# Altium schematic symbol library MPPT_600W.SchLib: 22 symbols
Pins are listed as number, name and electrical type; pins without a type are passive.

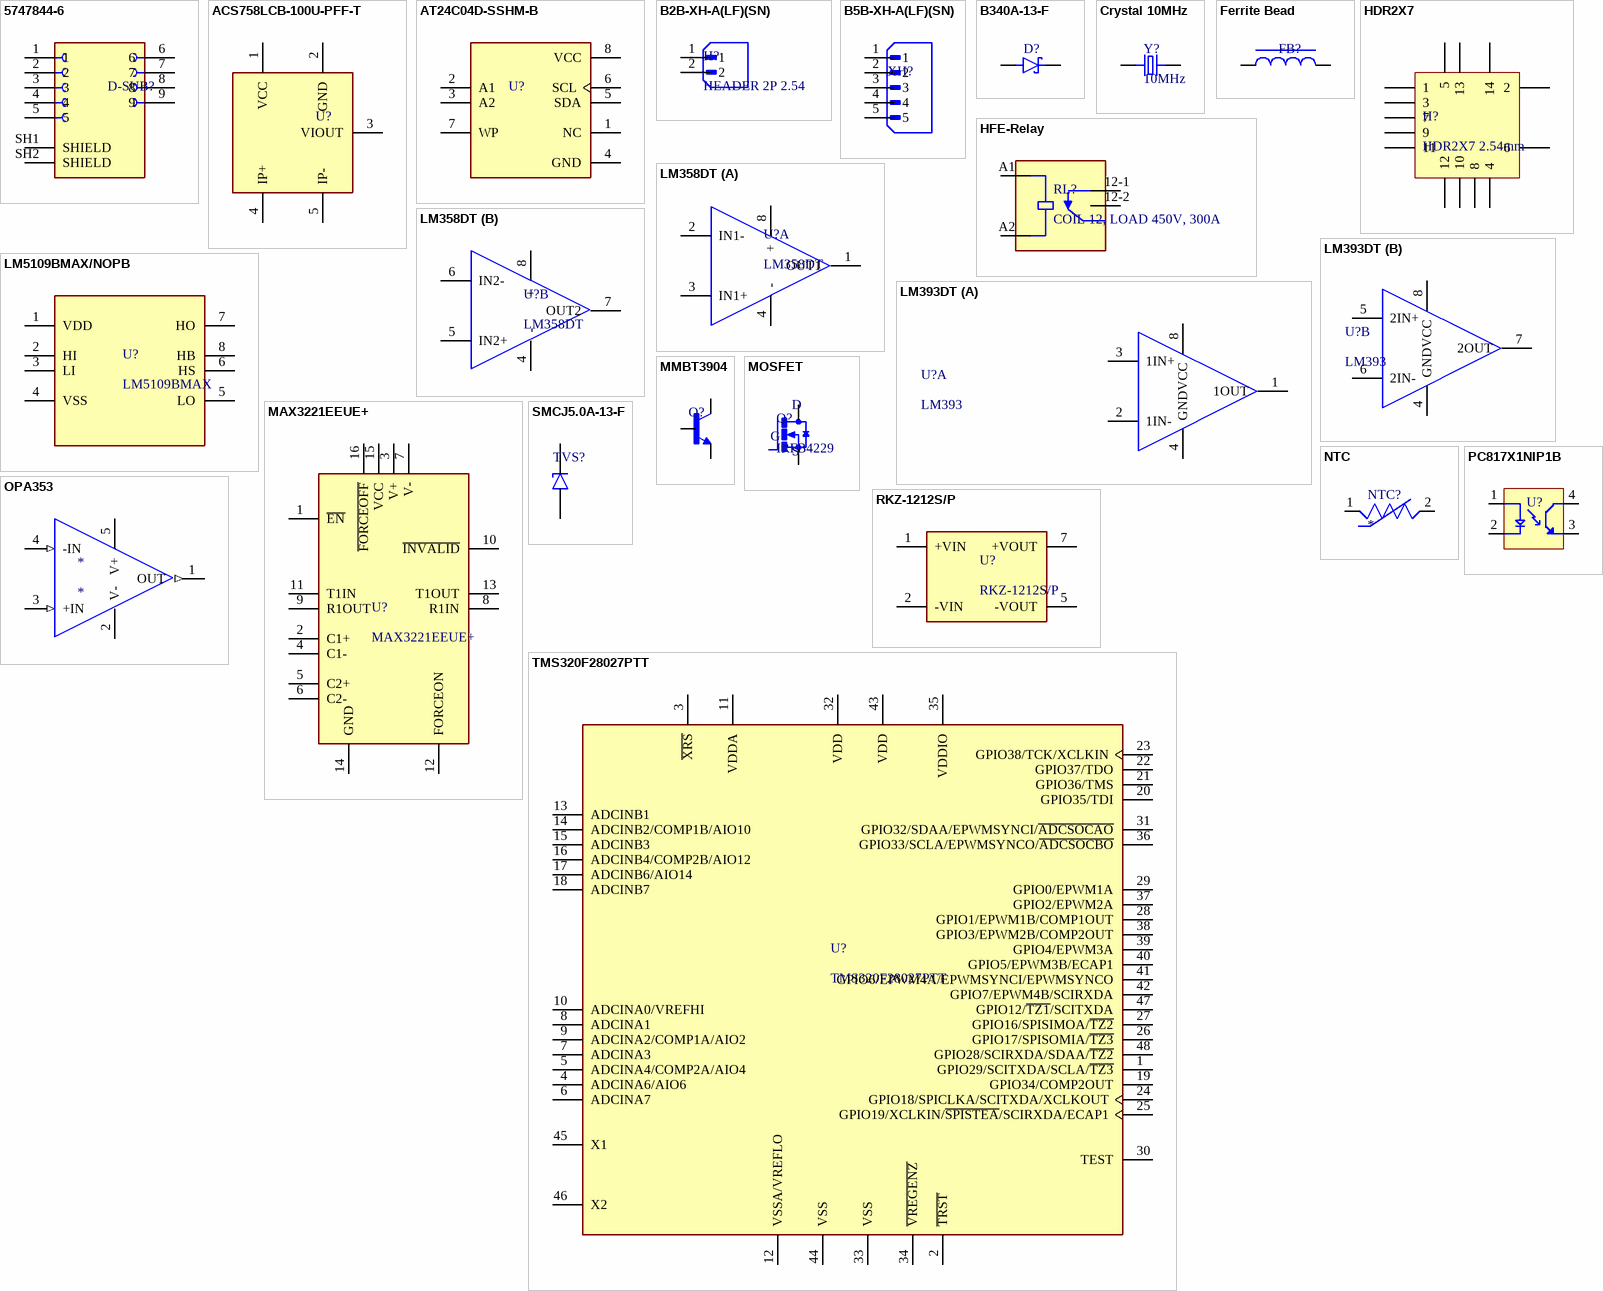
[diagram p0: symbols 5747844-6 to TMS320F28027PTT]

## 5747844-6
designator D-SUB?, comment 9PIN  (value not drawn)
Conn D-Subminiature SKT 9 POS 2.74mm Solder RA Thru-Hole 9 Terminal 1 Port Tray; Manufacturer: TE Connectivity AMP; Manufacturer Part Number: 5747844-6; Supplier 1: Avnet; RoHS: Yes; Category: D-Sub Connectors; Stock 1: 15437; Pricing 1: 1=2,25787, 10=2,21046, 30=2,11568, 50=2,05269, 100=1,97366 (USD); ComponentLink1URL: http://datasheet.octopart.com/5747844-6-TE-Connectivity-datasheet-10978930.pdf?src-supplier=Newark; ComponentLink1Description: http://datasheet.octopart.com/5747844-6-TE-Connectivity-datasheet-10978930.pdf?src-supplier=Newark; ComponentLink2URL: http://datasheet.octopart.com/5747844-6-TE-Connectivity-datasheet-10978930.pdf?src-supplier=Rs; ComponentLink2Description: http://datasheet.octopart.com/5747844-6-TE-Connectivity-datasheet-10978930.pdf?src-supplier=Rs; ComponentLink3URL: http://datasheet.octopart.com/5747844-6-TE-Connectivity-datasheet-10978930.pdf?src-supplier=Distrelec; ComponentLink3Description: http://datasheet.octopart.com/5747844-6-TE-Connectivity-datasheet-10978930.pdf?src-supplier=Distrelec; ComponentLink4URL: https://datasheet.octopart.com/5747844-6-Tyco-Electronics-datasheet-5330706.pdf?src-supplier=Future+Electronics; ComponentLink4Description: https://datasheet.octopart.com/5747844-6-Tyco-Electronics-datasheet-5330706.pdf?src-supplier=Future+Electronics; ComponentLink5URL: http://datasheet.octopart.com/5747844-6-TE-Connectivity-datasheet-10978930.pdf?src-supplier=Onlinecomponents.com; ComponentLink5Description: http://datasheet.octopart.com/5747844-6-TE-Connectivity-datasheet-10978930.pdf?src-supplier=Onlinecomponents.com; ComponentLink6URL: https://www.te.com/commerce/DocumentDelivery/DDEController?Action=srchrtrv&amp;DocNm=5747844&amp;DocType=Customer+Drawing&amp;DocLang=English&src-supplier=Digikey; ComponentLink6Description: https://www.te.com/commerce/DocumentDelivery/DDEController?Action=srchrtrv&amp;DocNm=5747844&amp;DocType=Customer+Drawing&amp;DocLang=English&src-supplier=Digikey; ComponentLink7URL: http://datasheet.octopart.com/5747844-6-TE-Connectivity-datasheet-10978930.pdf?src-supplier=TTI; ComponentLink7Description: http://datasheet.octopart.com/5747844-6-TE-Connectivity-datasheet-10978930.pdf?src-supplier=TTI; ComponentLink8URL: http://datasheet.octopart.com/5747844-6-TE-Connectivity-datasheet-10978930.pdf?src-supplier=Quest; ComponentLink8Description: http://datasheet.octopart.com/5747844-6-TE-Connectivity-datasheet-10978930.pdf?src-supplier=Quest; ComponentLink9URL: http://datasheet.octopart.com/5747844-6-TE-Connectivity-datasheet-10978930.pdf?src-supplier=TME; ComponentLink9Description: http://datasheet.octopart.com/5747844-6-TE-Connectivity-datasheet-10978930.pdf?src-supplier=TME; ComponentLink10URL: http://datasheet.octopart.com/5747844-6-TE-Connectivity-datasheet-10978930.pdf?src-supplier=Heilind+Electronics; ComponentLink10Description: http://datasheet.octopart.com/5747844-6-TE-Connectivity-datasheet-10978930.pdf?src-supplier=Heilind+Electronics; ComponentLink11URL: http://datasheet.octopart.com/5747844-6-TE-Connectivity-datasheet-10978930.pdf?src-supplier=Sager+Electronics; ComponentLink11Description: http://datasheet.octopart.com/5747844-6-TE-Connectivity-datasheet-10978930.pdf?src-supplier=Sager+Electronics; Supplier Part Number 1: 5747844-6
footprint D-SUB
pins: 1, 2, 3, 4, 5, 6, 7, 8, 9, SH1 SHIELD, SH2 SHIELD

## ACS758LCB-100U-PFF-T
designator U?  (value not drawn)
Open Loop Current Sensor AC/DC Current 5V Automotive 5-Pin Case CB-PFF Tube; Manufacturer: Allegro MicroSystems; Output Current: 1mA; Max Supply Current: 13.5mA; Min Supply Voltage: 3V; Max Supply Voltage: 5.5V; Bandwidth: 120kHz; Number of Channels: 1; Response Time: 4us; Quiescent Current: 10mA; Linearity: 1.25%; Accuracy: 2.4%; Current Sensing: 100A; Sensitivity: 40mV/A; Sensing Method: 6244SensingMethod; Supplier 1: Digikey; Manufacturer Part Number: ACS758LCB-100U-PFF-T; RoHS: Yes; Category: Current Sensors; Stock 1: 728; Pricing 1: 1=7,94, 5=7,17, 10=6,884, 34=6,43618, 68=6,21118, 102=6,08833, 510=5,65765, 1020=5,49716 (USD); Mount: Through Hole; Number of Pins: 5; Min Operating Temperature: -40°C; Max Operating Temperature: 150°C; Operating Supply Voltage: 5V; Packaging: Rail/Tube; Frequency: 120kHz; Series: Automotive, AEC-Q100; Operating Supply Current: 10mA; Length: 10mm; Width: 13mm; Height: 7mm; Radiation Hardening: No; Reach SVHC Compliant: No; RoHS Compliant: Yes; ComponentLink1URL: https://datasheet.ciiva.com/1165/acs758-datasheet-1165150.pdf?src-supplier=Element14; ComponentLink1Description: https://datasheet.ciiva.com/1165/acs758-datasheet-1165150.pdf?src-supplier=Element14; Supplier Part Number 1: 620-1354-ND
footprint ACS758
pins: 1 VCC (power), 2 GND (power), 3 VIOUT, 4 IP+, 5 IP-

## AT24C04D-SSHM-B
designator U?  (value not drawn)
AT24C04D Series 4 Kb (512 x 8) 1.7 V SMT I2C Compatible Serial EEPROM - SOIC-8; Manufacturer: Microchip; Memory Size: 512B; Supplier 1: Arrow Electronics; Manufacturer Part Number: AT24C04D-SSHM-B; RoHS: Yes; Stock 1: 1699; Pricing 1: 1=0,2175, 10=0,2121, 100=0,2065, 1000=0,2061 (USD); Height: 1.75mm; ComponentLink1URL: https://datasheet.ciiva.com/48502/atmel-8896-seeprom-at24c04d-datasheet-48502028.pdf?src-supplier=Avnet; ComponentLink1Description: https://datasheet.ciiva.com/48502/atmel-8896-seeprom-at24c04d-datasheet-48502028.pdf?src-supplier=Avnet; Supplier Part Number 1: AT24C04D-SSHM-B
footprint AT24C04D
pins: 1 NC, 2 A1, 3 A2, 4 GND, 5 SDA, 6 SCL, 7 WP, 8 VCC

## B2B-XH-A(LF)(SN)
designator H?, comment HEADER 2P 2.54
CONNECTOR HEADER, XH SERIES, 2 POSITION, 2.50MM, Press-Fit Solder, Detent Lock, Natural; Manufacturer: JST; Manufacturer Part Number: B2B-XH-A(LF)(SN); Current Rating: 3A; Number of Positions: 2; Contact Resistance: 20mR; Insulation Resistance: 1GR; Voltage Rating: 250V; Pitch: 2.5mm; Wire/Cable Gauge: 22AWG; Supplier 1: Future Electronics; RoHS: Yes; Category: Headers and Wire Housings; Stock 1: 138390; Pricing 1: 1=0,0544, 500=0,0528, 1500=0,0514, 5000=0,0499, 15000=0,0472 (USD); Mount: Through Hole; Contact Material: Brass; Contact Plating: Tin,Lead,Copper; Housing Material: Polyamide; Color: Natural; Housing Color: White; Weight: 28.349523g; Min Operating Temperature: -25°C; Max Operating Temperature: 85°C; Termination: Solder; Number of Rows: 1; Packaging: Bulk; Series: XH; Orientation: Straight; Contact Type: Male Pin; Max Current Rating: 3A; Fastening Type: Detent; Max Voltage Rating (AC): 250V; Number of Contacts: 2; Voltage Rating (AC): 250V; Max Voltage Rating (DC): 250V; Length: 7.4mm; Depth: 5.75mm; Lead Pitch: 2.5mm; Lead Free: Lead Free; Reach SVHC Compliant: No; ComponentLink1URL: https://datasheet.ciiva.com/11746/0900766b8082653e-11746979.pdf?src-supplier=Rs; ComponentLink1Description: https://datasheet.ciiva.com/11746/0900766b8082653e-11746979.pdf?src-supplier=Rs; ComponentLink2URL: https://datasheet.ciiva.com/26894/getdatasheetpartid-385291-26894760.pdf?src-supplier=Verical; ComponentLink2Description: https://datasheet.ciiva.com/26894/getdatasheetpartid-385291-26894760.pdf?src-supplier=Verical; ComponentLink3URL: https://datasheet.ciiva.com/26894/getdatasheetpartid-640357-26894434.pdf?src-supplier=Verical; ComponentLink3Description: https://datasheet.ciiva.com/26894/getdatasheetpartid-640357-26894434.pdf?src-supplier=Verical; ComponentLink4URL: https://datasheet.ciiva.com/8052/5448-8052024.pdf?src-supplier=Element14; ComponentLink4Description: https://datasheet.ciiva.com/8052/5448-8052024.pdf?src-supplier=Element14; Supplier Part Number 1: 1638840
footprint HEADER 2P 2.544
pins: 1, 2

## B5B-XH-A(LF)(SN)
designator XH?  (value not drawn)
Connector Header, XH Series, 5 Position, 2.50mm, Through Hole, Press-Fit, Solder, Natural; Manufacturer: JST; Voltage Rating: 250V; Number of Positions: 5; Gender: 29Gender; Contact Post Length: 0.134inch; Mated Stacking Heights: 9.8mm; Supplier 1: Future Electronics; Manufacturer Part Number: B5B-XH-A(LF)(SN); RoHS: Yes; Category: Headers and Wire Housings; Stock 1: 3816; Pricing 1: 1=0,106, 250=0,103, 1000=0,0996, 2500=0,0972, 10000=0,0916 (USD); Mount: Through Hole; Contact Material: Brass; Contact Shape: Square; Contact Finish - Mating: TIN; Insulation Material: Nylon; Insulation Color: Natural; Weight: 28.349523g; Min Operating Temperature: -25°C; Max Operating Temperature: 85°C; Number of Rows: 1; Packaging: Bulk; Termination: Press-Fit; Fastening Type: Detent; Connector Type: Header; Series: XH; Contact Type: Male Pin; Insulation Height: 0.276inch; Lead Free: Lead Free; Flammability Rating: UL94 V-0; ComponentLink1URL: https://datasheet.ciiva.com/26894/getdatasheetpartid-455618-26894798.pdf?src-supplier=Verical; ComponentLink1Description: https://datasheet.ciiva.com/26894/getdatasheetpartid-455618-26894798.pdf?src-supplier=Verical; ComponentLink2URL: https://datasheet.ciiva.com/11746/0900766b8082f55f-11746654.pdf?src-supplier=Rs; ComponentLink2Description: https://datasheet.ciiva.com/11746/0900766b8082f55f-11746654.pdf?src-supplier=Rs; ComponentLink3URL: https://datasheet.ciiva.com/26894/getdatasheetpartid-640991-26894479.pdf?src-supplier=Verical; ComponentLink3Description: https://datasheet.ciiva.com/26894/getdatasheetpartid-640991-26894479.pdf?src-supplier=Verical; ComponentLink4URL: https://datasheet.ciiva.com/724/exh-724390.pdf?src-supplier=Digikey; ComponentLink4Description: https://datasheet.ciiva.com/724/exh-724390.pdf?src-supplier=Digikey; ComponentLink5URL: https://datasheet.ciiva.com/8052/1684882-8052063.pdf?src-supplier=Element14; ComponentLink5Description: https://datasheet.ciiva.com/8052/1684882-8052063.pdf?src-supplier=Element14; Supplier Part Number 1: 5006945
footprint XH2.54 5p
pins: 1, 2, 3, 4, 5

## B340A-13-F
designator D?  (value not drawn)
Schottky Diode, 3A, 40V, DO-214AC; Manufacturer: Diodes; Forward Voltage: 500mV; Peak Non-Repetitive Surge Current: 80A; Max Reverse Current: 500uA; Polarity: Standard; Capacitance: 250pF; Supplier 1: Digikey; Manufacturer Part Number: B340A-13-F; RoHS: Yes; Category: LDO; Stock 1: 167709; Pricing 1: 1=0,41, 10=0,257, 100=0,2251, 500=0,16972, 1000=0,14704, 2000=0,13679, 5000=0,09696, 10000=0,09188 (USD); Mount: Surface Mount; Case/Package: SMA; Number of Pins: 2; Weight: 0.002258oz; Min Operating Temperature: -55°C; Max Operating Temperature: 125°C; Forward Current: 3A; Packaging: Tape and Reel; Package Quantity: 5000; Average Rectified Current: 3A; Max Repetitive Reverse Voltage (Vrrm): 40V; Max Forward Surge Current (Ifsm): 80A; Termination: SMD/SMT; Voltage Rating (DC): 40V; Current Rating: 3A; Output Current: 3A; Current: 3A; Voltage: 40V; Max Reverse Voltage (DC): 40V; Series: -; Length: 4.6mm; Width: 2.92mm; Height: 2.3mm; Radiation Hardening: No; RoHS Compliant: Yes; Reach SVHC Compliant: No; Lead Free: Lead Free; Supplier Part Number 1: B340A-FDICT-ND
footprint B340A
pins: A, C

## Crystal 10MHz
designator Y?, comment 10MHz
10 MHz ±20ppm Crystal 18pF 50 Ohms HC-49/US; Supplier 1: Digikey; Supplier Part Number 1: XC3070CT-ND
footprint Crystal 10Mhz
pins: 1, 2

## Ferrite Bead
designator FB?, comment Ferrite Beads Multi-Layer 390Ohm 25% 100MHz 500mA 300mOhm DCR 0603 Automotive T/R  (value not drawn)
Manufacturer: Murata; Manufacturer Part Number: BLM18EG391TH1D; Impedance: 390R; Number of Circuits: 1; Supplier 1: Digikey; RoHS: Yes; Category: Ferrite Beads and Chips; Pricing 1: 4000=0,0747 (USD); Mount: Surface Mount; Case/Package: 0603; Case Code (Imperial): 0603; Min Operating Temperature: -55°C; Max Operating Temperature: 125°C; Packaging: Tape and Reel; Tolerance: 25%; Package Quantity: 4000; Termination: SMD/SMT; Test Frequency: 100MHz; Max DC Current: 500mA; Series: EMIFIL®, BLM18; Number of Lines: 1; Length: 1.6mm; Width: 0.8mm; Height: 0.8mm; Depth: 0.95mm; RoHS Compliant: Yes; ComponentLink1URL: https://datasheet.ciiva.com/8510/l0132s0193blm18e-shth-8510168.pdf?src-supplier=Avnet; ComponentLink1Description: https://datasheet.ciiva.com/8510/l0132s0193blm18e-shth-8510168.pdf?src-supplier=Avnet; Supplier Part Number 1: BLM18EG391TH1D-ND
footprint FERRITE BEAD 0603
pins: 1, 2

## HDR2X7
designator H?, comment HDR2X7 2.54mm
footprint HDR2X7
pins: 1, 2, 3, 4, 5, 6, 7, 8, 9, 10, 11, 12, 13, 14

## HFE-Relay
designator RL?, comment COIL 12, LOAD 450V, 300A
pins: 12-1 NC, 12-2 NC, A1 COIL1, A2 COIL2

## LM358DT
designator U?
Operational Amplifier, 2-Channels, 1.1 MHz, 0.6 V/us, 3 V to 30 V, 8 Pins, SOIC; Manufacturer: STMicroelectronics; Supplier 1: Arrow Electronics; Manufacturer Part Number: LM358DT; RoHS: Yes; Category: Amplifiers - Op Amps, Buffer, Instrumentation; Stock 1: 6035000; Pricing 1: 2500=0,0596, 10000=0,056, 20000=0,0553 (USD); Lead Free: 5697LeadFree; ComponentLink1URL: https://datasheet.ciiva.com/15129/getdatasheetpartid-39583-15129679.pdf?src-supplier=Verical; ComponentLink1Description: https://datasheet.ciiva.com/15129/getdatasheetpartid-39583-15129679.pdf?src-supplier=Verical; ComponentLink2URL: https://datasheet.ciiva.com/29306/155599-da-01-en-op-verst-lm358dt-stm-29306826.pdf?src-supplier=Conrad; ComponentLink2Description: https://datasheet.ciiva.com/29306/155599-da-01-en-op-verst-lm358dt-stm-29306826.pdf?src-supplier=Conrad; ComponentLink3URL: https://datasheet.ciiva.com/14544/70013561-14544747.pdf?src-supplier=Allied+Electronics; ComponentLink3Description: https://datasheet.ciiva.com/14544/70013561-14544747.pdf?src-supplier=Allied+Electronics; ComponentLink4URL: https://datasheet.ciiva.com/16371/cd00000464-16371207.pdf?src-supplier=Future+Electronics; ComponentLink4Description: https://datasheet.ciiva.com/16371/cd00000464-16371207.pdf?src-supplier=Future+Electronics; ComponentLink5URL: https://datasheet.ciiva.com/1795/cd00000464-1795490.pdf?src-supplier=Digikey; ComponentLink5Description: https://datasheet.ciiva.com/1795/cd00000464-1795490.pdf?src-supplier=Digikey; ComponentLink6URL: https://datasheet.ciiva.com/1795/cd00000464-1795491.pdf?src-supplier=Digikey; ComponentLink6Description: https://datasheet.ciiva.com/1795/cd00000464-1795491.pdf?src-supplier=Digikey; ComponentLink7URL: https://datasheet.ciiva.com/1795/cd00000464-1795492.pdf?src-supplier=Digikey; ComponentLink7Description: https://datasheet.ciiva.com/1795/cd00000464-1795492.pdf?src-supplier=Digikey; Supplier Part Number 1: LM358DT
footprint LM358
part A pins: 1 OUT1, 2 IN1-, 3 IN1+, 4 -, 8 +
part B pins: 4 -, 5 IN2+, 6 IN2-, 7 OUT2, 8 +

## LM393DT
designator U?, comment LM393
LM393 Series Dual 36 V 250 nA SMT Low Power Voltage Comparator - SOIC-8; Manufacturer: STMicroelectronics; Manufacturer Part Number: LM393DT; Supplier 1: Arrow Electronics; RoHS: Yes; Category: Comparators; Stock 1: 3735000; Pricing 1: 2500=0,0603, 7500=0,0589, 12500=0,0587, 17500=0,0577, 25000=0,0566, 62500=0,0562, 125000=0,0549 (USD); ComponentLink1URL: https://datasheet.ciiva.com/14153/lm393-st-tds-eng-14153514.pdf?src-supplier=Distrelec; ComponentLink1Description: https://datasheet.ciiva.com/14153/lm393-st-tds-eng-14153514.pdf?src-supplier=Distrelec; ComponentLink2URL: https://datasheet.ciiva.com/1827/cd00000465-1827142.pdf?src-supplier=Digikey; ComponentLink2Description: https://datasheet.ciiva.com/1827/cd00000465-1827142.pdf?src-supplier=Digikey; ComponentLink3URL: https://datasheet.ciiva.com/1827/cd00000465-1827143.pdf?src-supplier=Digikey; ComponentLink3Description: https://datasheet.ciiva.com/1827/cd00000465-1827143.pdf?src-supplier=Digikey; ComponentLink4URL: https://datasheet.ciiva.com/1827/cd00000465-1827144.pdf?src-supplier=Digikey; ComponentLink4Description: https://datasheet.ciiva.com/1827/cd00000465-1827144.pdf?src-supplier=Digikey; ComponentLink5URL: https://datasheet.ciiva.com/2970/cd00000465-2970521.pdf?src-supplier=Avnet; ComponentLink5Description: https://datasheet.ciiva.com/2970/cd00000465-2970521.pdf?src-supplier=Avnet; ComponentLink6URL: https://datasheet.ciiva.com/4463/cd00000465-4463849.pdf?src-supplier=Mouser; ComponentLink6Description: https://datasheet.ciiva.com/4463/cd00000465-4463849.pdf?src-supplier=Mouser; ComponentLink7URL: https://datasheet.ciiva.com/8067/1689826-8067369.pdf?src-supplier=Element14; ComponentLink7Description: https://datasheet.ciiva.com/8067/1689826-8067369.pdf?src-supplier=Element14; ComponentLink8URL: https://datasheet.ciiva.com/1483/1689826-1483069.pdf?src-supplier=Element14; ComponentLink8Description: https://datasheet.ciiva.com/1483/1689826-1483069.pdf?src-supplier=Element14; Supplier Part Number 1: LM393DT
footprint lm393
part A pins: 1 1OUT, 2 1IN-, 3 1IN+, 4 GND, 8 VCC
part B pins: 4 GND, 5 2IN+, 6 2IN-, 7 2OUT, 8 VCC

## LM5109BMAX/NOPB
designator U?, comment LM5109BMAX
1-A, 100-V half bridge gate driver with 8-V UVLO and high noise immunity 8-SOIC -40 to 125; Manufacturer: TI National Semiconductor; Manufacturer Part Number: LM5109BMAX/NOPB; Supplier 1: Mouser; RoHS: Yes; Category: Gate Drivers; Stock 1: 6394; Pricing 1: 1=0,85, 10=0,609, 50=0,548, 100=0,482, 1000=0,415, 10000=0,374 (USD); ComponentLink1URL: https://datasheet.ciiva.com/6609/lm5109b-6609744.pdf?src-supplier=Digikey; ComponentLink1Description: https://datasheet.ciiva.com/6609/lm5109b-6609744.pdf?src-supplier=Digikey; ComponentLink2URL: https://datasheet.ciiva.com/41458/001014174-da-01-en-ic-dvr-half-b-lm5109bmax-nopb-soic-8-tid-41458460.pdf?src-supplier=Conrad; ComponentLink2Description: https://datasheet.ciiva.com/41458/001014174-da-01-en-ic-dvr-half-b-lm5109bmax-nopb-soic-8-tid-41458460.pdf?src-supplier=Conrad; ComponentLink3URL: https://datasheet.ciiva.com/6609/lm5109b-6609743.pdf?src-supplier=Digikey; ComponentLink3Description: https://datasheet.ciiva.com/6609/lm5109b-6609743.pdf?src-supplier=Digikey; Supplier Part Number 1: 926-LM5109BMAX/NOPB
footprint LM5109B
pins: 1 VDD, 2 HI, 3 LI, 4 VSS, 5 LO, 6 HS, 7 HO, 8 HB

## MAX3221EEUE+
designator U?
MAX3221 Series 250 kbps 5.5V Surface Mount RS-232 Transceiver - TSSOP-16; Manufacturer: Maxim; Supplier 1: Mouser; Manufacturer Part Number: MAX3221EEUE+; RoHS: Yes; Category: Buffers, Drivers and Transceivers; Stock 1: 3957; Pricing 1: 1=7,14, 10=5,98, 50=5,9, 100=5, 1000=5, 10000=4,81 (USD); ComponentLink1URL: https://datasheet.ciiva.com/3028/max3221e-max3243e-3028482.pdf?src-supplier=Avnet; ComponentLink1Description: https://datasheet.ciiva.com/3028/max3221e-max3243e-3028482.pdf?src-supplier=Avnet; ComponentLink2URL: https://datasheet.ciiva.com/1713/max3221e-max3243e-1713134.pdf?src-supplier=Digikey; ComponentLink2Description: https://datasheet.ciiva.com/1713/max3221e-max3243e-1713134.pdf?src-supplier=Digikey; Supplier Part Number 1: 700-MAX3221EEUE
footprint max3221
pins: 1 ~{EN}, 2 C1+, 3 V+, 4 C1-, 5 C2+, 6 C2-, 7 V-, 8 R1IN, 9 R1OUT, 10 ~{INVALID}, 11 T1IN, 12 FORCEON, 13 T1OUT, 14 GND, 15 VCC, 16 ~{FORCEOFF}

## MMBT3904
designator Q?  (value not drawn)
MMBT3904 Series 40 V CE Breakdown 0.2 A NPN General Purpose Amplifier - SOT-23; Manufacturer: onsemi; Collector Emitter Voltage (VCEO): 40V; Current Rating: 200mA; hFE Min: 100; Max Power Dissipation: 350mW; Transition Frequency: 300MHz; Collector Base Voltage (VCBO): 60V; Emitter Base Voltage (VEBO): 6V; Collector Emitter Saturation Voltage: 300mV; Supplier 1: Farnell; Manufacturer Part Number: MMBT3904; RoHS: Yes; Category: BJTs; Pricing 1: 5=0,136, 25=0,133, 100=0,0476, 250=0,0435, 500=0,043, 1000=0,022, 5000=0,02 (GBP); Mount: Surface Mount; Case/Package: SOT-23; Number of Pins: 3; Weight: 0.03g; Min Operating Temperature: -55°C; Max Operating Temperature: 150°C; Packaging: Tape and Reel; Polarity: NPN; Collector Emitter Breakdown Voltage: 40V; Voltage Rating (DC): 40V; Package Quantity: 1; Max Collector Current: 200mA; Max Breakdown Voltage: 40V; Series: -; Collector-emitter Voltage-Max: 300mV; Termination: SMD/SMT; Radiation Hardening: No; RoHS Compliant: Yes; Reach SVHC Compliant: No; Lead Free: Lead Free; ComponentLink1URL: http://www.farnell.com/datasheets/2304127.pdf?src-supplier=Farnell; ComponentLink1Description: http://www.farnell.com/datasheets/2304127.pdf?src-supplier=Farnell; ComponentLink2URL: http://www.onlinecomponents.com/datasheet/mmbt3904.aspx?p=11366981&src-supplier=Onlinecomponents.com; ComponentLink2Description: http://www.onlinecomponents.com/datasheet/mmbt3904.aspx?p=11366981&src-supplier=Onlinecomponents.com; ComponentLink3URL: http://components.arrow.com/part/dataview/201938S7901518N7769?src-supplier=Arrow+Electronics; ComponentLink3Description: http://components.arrow.com/part/dataview/201938S7901518N7769?src-supplier=Arrow+Electronics; ComponentLink4URL: http://www.produktinfo.conrad.com/datenblaetter/1200000-1299999/001264825-da-01-en-TRANSISTOR_GP_NPN_MMBT3904_SOT_23_3_FSC.pdf?src-supplier=Conrad; ComponentLink4Description: http://www.produktinfo.conrad.com/datenblaetter/1200000-1299999/001264825-da-01-en-TRANSISTOR_GP_NPN_MMBT3904_SOT_23_3_FSC.pdf?src-supplier=Conrad; Supplier Part Number 1: 9846727
footprint MMBT3904
pins: 1 B, 2 E, 3 C

## MOSFET
designator Q?, comment IRFB4229
pins: 1 G, 2 D, 3 S

## NTC
designator NTC?
pins: 1, 2

## OPA353
designator *
pins: 1 OUT (out), 2 V- (power), 3 +IN (in), 4 -IN (in), 5 V+ (power)

## PC817X1NIP1B
designator U?  (value not drawn)
Optocoupler Dc-in 1-CH Transistor Dc-out 4-PIN DIP SMD T/r; Manufacturer: Sharp; Number of Channels: 1NUMBER; Supplier 1: Mouser; Manufacturer Part Number: PC817X1NIP1B; RoHS: Yes; Category: Optocouplers; Pricing 1: 1=0,7, 10=0,473, 50=0,473, 100=0,343, 1000=0,277, 10000=0,181 (USD); ComponentLink1URL: https://datasheet.octopart.com/PC817X1NIP1B-Sharp-datasheet-81842616.pdf?src-supplier=TME; ComponentLink1Description: https://datasheet.octopart.com/PC817X1NIP1B-Sharp-datasheet-81842616.pdf?src-supplier=TME; Supplier Part Number 1: 852-PC817X1NIP1B
footprint PC817
pins: 1 A, 2 C, 3 ET, 4 CT

## RKZ-1212S/P
designator U?
2W DC/DC-Converter 'ECONOLINE' SIP7 3kV unreg; V. In: 12; V. Out: 12; mA. Out: 168; Manufacturer: Recom; Supplier 1: Digikey; Manufacturer Part Number: RKZ-1212S/P; RoHS: Yes; Category: Board Mount Modules; Stock 1: 900; Pricing 1: 1=10,37, 5=10,05, 10=9,59, 25=9,29, 50=9,17, 100=8,9, 250=8,31004 (USD); ComponentLink1URL: https://datasheet.ciiva.com/2175/rkz-2175652.pdf?src-supplier=Digikey; ComponentLink1Description: https://datasheet.ciiva.com/2175/rkz-2175652.pdf?src-supplier=Digikey; Supplier Part Number 1: 945-2710-5-ND
footprint 1212S
pins: 1 +VIN, 2 -VIN, 5 -VOUT, 7 +VOUT

## SMCJ5.0A-13-F
designator TVS?  (value not drawn)
SMCJ5.0A Series 1500 W 5.0 V Surface Mount Uni-Directional TVS Diode - DO-214AB; Manufacturer: Diodes; Voltage Rating (DC): 51V; Forward Voltage: 3.5V; Direction: Unidirectional; Reverse Breakdown Voltage: 6.4V; Max Surge Current: 200A; Number of Unidirectional Channels: 1; Reverse Standoff Voltage: 5V; Clamping Voltage: 9.2V; Peak Pulse Power: 1.5kW; Power Line Protection: No; Peak Pulse Current: 163A; Test Current: 10mA; Max Breakdown Voltage: 7.07V; Max Reverse Leakage Current: 1mA; Capacitance: 7nF; Diode Type: ZENER; Supplier 1: Digikey; Manufacturer Part Number: SMCJ5.0A-13-F; RoHS: Yes; Category: TVS Diodes; Stock 1: 6833; Pricing 1: 1=0,72, 10=0,569, 100=0,32, 500=0,306, 1000=0,29 (USD); Mount: Surface Mount; Case/Package: SMC; Number of Pins: 2; Min Operating Temperature: -55°C; Max Operating Temperature: 150°C; Package Quantity: 3000; Packaging: Tape and Reel; Min Breakdown Voltage: 6.4V; Polarity: Unidirectional; Termination: SMD/SMT; Working Voltage: 5V; Breakdown Voltage: 6.4V; Max Power Dissipation: 1.5kW; Number of Elements: 1; Power Dissipation: 1.5kW; Leakage Current: 1mA; Max Output Current: 163A; Series: -; Clamping Voltage-Max: 9.2V; Length: 7.11mm; Width: 6.22mm; Height: 2.62mm; Radiation Hardening: No; Lead Free: Lead Free; RoHS Compliant: Yes; ComponentLink1URL: https://datasheet.ciiva.com/336/ds19003-336384.pdf?src-supplier=Digikey; ComponentLink1Description: https://datasheet.ciiva.com/336/ds19003-336384.pdf?src-supplier=Digikey; ComponentLink2URL: https://datasheet.ciiva.com/15143/getdatasheetpartid-171808-15143868.pdf?src-supplier=Verical; ComponentLink2Description: https://datasheet.ciiva.com/15143/getdatasheetpartid-171808-15143868.pdf?src-supplier=Verical; Supplier Part Number 1: SMCJ5.0A-FDICT-ND
footprint TVS 5V
pins: 1 C, 2 A

## TMS320F28027PTT
designator U?
C2000™ 32-bit MCU with 60 MHz, 64 KB flash 48-LQFP -40 to 105; Manufacturer: Maxim; Manufacturer Part Number: MAX3221EEUE+; Number of A/D Converters: 1NUMBER; Supplier 1: Mouser; Supplier 2: Mouser; RoHS: Yes; Category: Buffers, Drivers and Transceivers; Stock 2: 3957; Pricing 2: 1=7,14, 10=5,98, 50=5,9, 100=5, 1000=5, 10000=4,81 (USD); ComponentLink1URL: https://datasheet.ciiva.com/3028/max3221e-max3243e-3028482.pdf?src-supplier=Avnet; ComponentLink1Description: https://datasheet.ciiva.com/3028/max3221e-max3243e-3028482.pdf?src-supplier=Avnet; ComponentLink2URL: https://datasheet.ciiva.com/1713/max3221e-max3243e-1713134.pdf?src-supplier=Digikey; ComponentLink2Description: https://datasheet.ciiva.com/1713/max3221e-max3243e-1713134.pdf?src-supplier=Digikey; Stock 1: 289; Pricing 1: 1=10,22, 10=7,9, 25=7,53, 50=7,53, 100=6,54, 250=6,24, 500=5,69, 1000=4,96, 2500=4,77, 10000=4,96 (USD); Thickness: 1.4mm; Lead Free: 5697LeadFree; ComponentLink3URL: https://datasheet.ciiva.com/6656/tms320f28020-6656816.pdf?src-supplier=Digikey; ComponentLink3Description: https://datasheet.ciiva.com/6656/tms320f28020-6656816.pdf?src-supplier=Digikey; ComponentLink4URL: https://datasheet.ciiva.com/3203/tms320f28026-3203576.pdf?src-supplier=Avnet; ComponentLink4Description: https://datasheet.ciiva.com/3203/tms320f28026-3203576.pdf?src-supplier=Avnet; ComponentLink5URL: https://datasheet.ciiva.com/28626/1827035-28626846.pdf?src-supplier=Element14; ComponentLink5Description: https://datasheet.ciiva.com/28626/1827035-28626846.pdf?src-supplier=Element14; Supplier Part Number 1: 595-TMS320F28027PTT; Supplier Part Number 2: 700-MAX3221EEUE
footprint TMS320F28027PTT
pins: 1 GPIO29/SCITXDA/SCLA/~{TZ3}, 2 ~{TRST}, 3 ~{XRS}, 4 ADCINA6/AIO6, 5 ADCINA4/COMP2A/AIO4, 6 ADCINA7, 7 ADCINA3, 8 ADCINA1, 9 ADCINA2/COMP1A/AIO2, 10 ADCINA0/VREFHI, 11 VDDA, 12 VSSA/VREFLO, 13 ADCINB1, 14 ADCINB2/COMP1B/AIO10, 15 ADCINB3, 16 ADCINB4/COMP2B/AIO12, 17 ADCINB6/AIO14, 18 ADCINB7, 19 GPIO34/COMP2OUT, 20 GPIO35/TDI, 21 GPIO36/TMS, 22 GPIO37/TDO, 23 GPIO38/TCK/XCLKIN, 24 GPIO18/SPICLKA/SCITXDA/XCLKOUT, 25 GPIO19/XCLKIN/~{SPISTEA}/SCIRXDA/ECAP1, 26 GPIO17/SPISOMIA/~{TZ3}, 27 GPIO16/SPISIMOA/~{TZ2}, 28 GPIO1/EPWM1B/COMP1OUT, 29 GPIO0/EPWM1A, 30 TEST, 31 GPIO32/SDAA/EPWMSYNCI/~{ADCSOCAO}, 32 VDD, 33 VSS, 34 ~{VREGENZ}, 35 VDDIO, 36 GPIO33/SCLA/EPWMSYNCO/~{ADCSOCBO}, 37 GPIO2/EPWM2A, 38 GPIO3/EPWM2B/COMP2OUT, 39 GPIO4/EPWM3A, 40 GPIO5/EPWM3B/ECAP1, 41 GPIO6/EPWM4A/EPWMSYNCI/EPWMSYNCO, 42 GPIO7/EPWM4B/SCIRXDA, 43 VDD, 44 VSS, 45 X1, 46 X2, 47 GPIO12/~{TZ1}/SCITXDA, 48 GPIO28/SCIRXDA/SDAA/~{TZ2}